# Altium schematic symbol library Schlib1.SchLib: 25 symbols
Pins are listed as number, name and electrical type; pins without a type are passive.

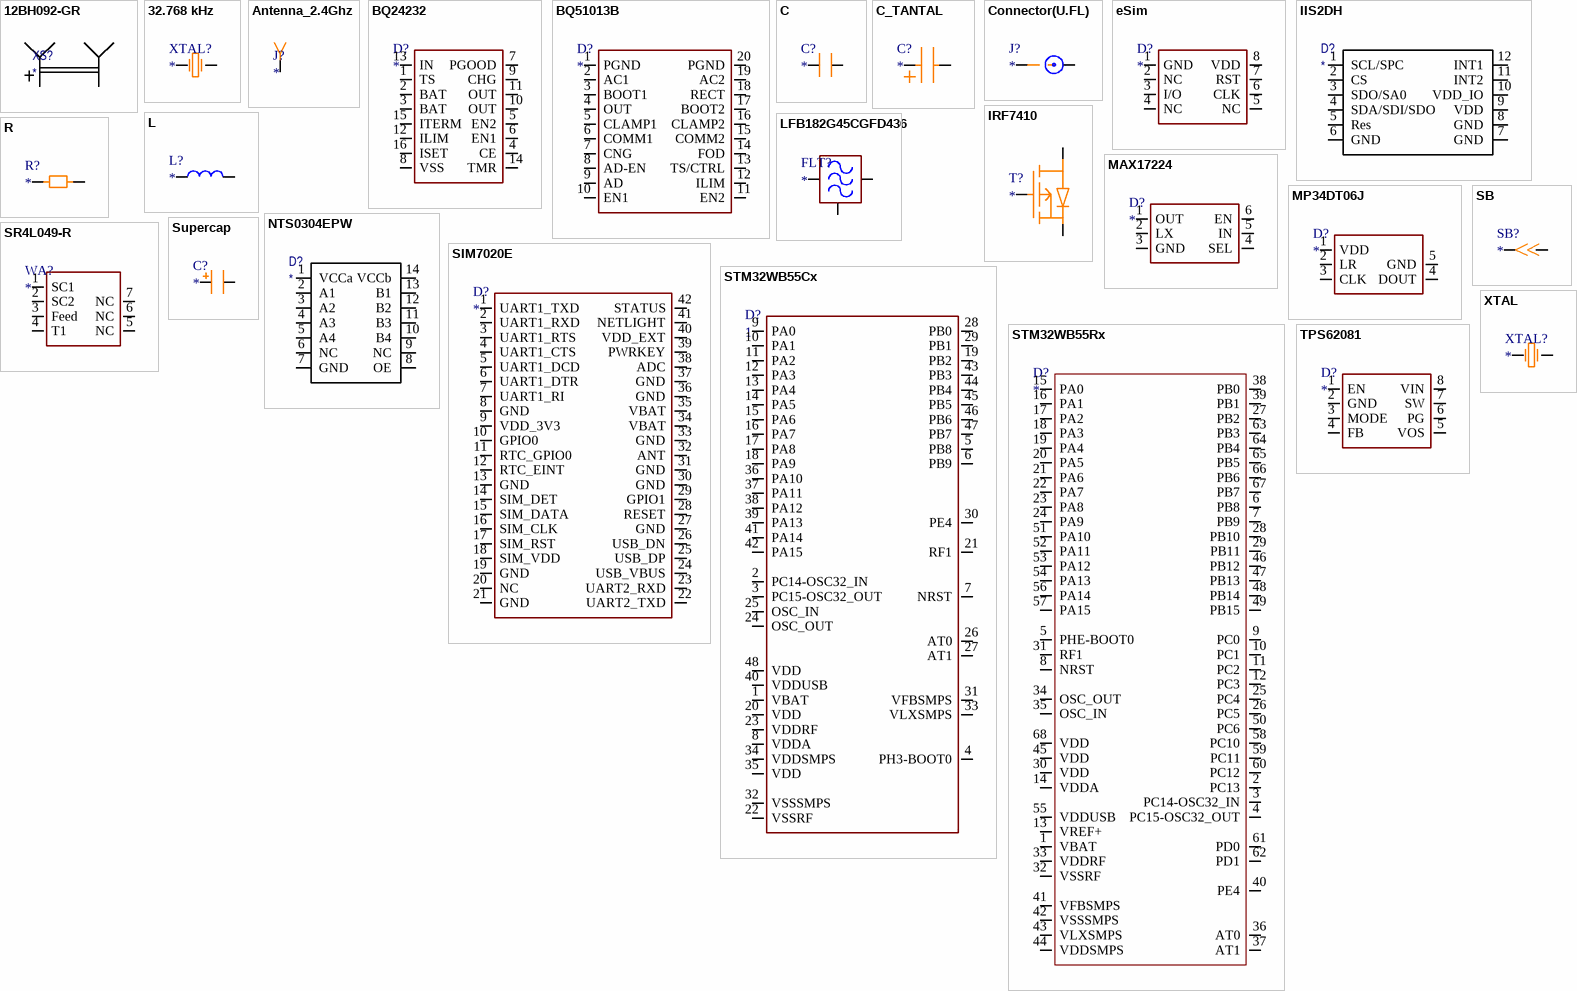
[diagram p0: symbols 12BH092-GR to XTAL]

## 12BH092-GR
designator XS?
footprint 12BH092-GR
pins: 1, 2

## 32.768 kHz
designator XTAL?
footprint NX2012SA
pins: 1, 2

## Antenna_2.4Ghz
designator J?
footprint Antenna_2.4Ghz
pins: 1

## BQ24232
designator D?
footprint VQFN-16
pins: 1 TS, 2 BAT, 3 BAT, 4 CE, 5 EN2, 6 EN1, 7 PGOOD, 8 VSS, 9 CHG, 10 OUT, 11 OUT, 12 ILIM, 13 IN, 14 TMR, 15 ITERM, 16 ISET

## BQ51013B
designator D?
footprint VQFN20
pins: 1 PGND, 2 AC1, 3 BOOT1, 4 OUT, 5 CLAMP1, 6 COMM1, 7 CNG, 8 AD-EN, 9 AD, 10 EN1, 11 EN2, 12 ILIM, 13 TS/CTRL, 14 FOD, 15 COMM2, 16 CLAMP2, 17 BOOT2, 18 RECT, 19 AC2, 20 PGND

## C
designator C?
footprint C0402
footprint C0805
footprint C0603
pins: 1, 2

## C_TANTAL
designator C?
footprint C_TYPE_D
pins: 1, 2

## Connector(U.FL)
designator J?
footprint U.FL
pins: 1, 2

## eSim
designator D?
footprint VQFN8
pins: 1 GND, 2 NC, 3 I/O, 4 NC, 5 NC, 6 CLK, 7 RST, 8 VDD

## IIS2DH
designator D?
footprint LGA12
pins: 1 SCL/SPC, 2 CS, 3 SDO/SA0, 4 SDA/SDI/SDO, 5 Res, 6 GND, 7 GND, 8 GND, 9 VDD, 10 VDD_IO, 11 INT2, 12 INT1

## IRF7410
designator T?
footprint SO8
pins: 1, 4, 5

## L
designator L?
footprint L0402
footprint L0805
footprint L1608
footprint L2016
pins: 1, 2

## LFB182G45CGFD436
designator FLT?
footprint LFB182G45CGFD436
pins: 1, 2, 3

## MAX17224
designator D?
pins: 1 OUT, 2 LX, 3 GND, 4 SEL, 5 IN, 6 EN

## MP34DT06J
designator D?
footprint MP34DT06J
pins: 1 VDD, 2 LR, 3 CLK, 4 DOUT, 5 GND

## NTS0304EPW
designator D?
footprint TSSOP14
pins: 1 VCCa, 2 A1, 3 A2, 4 A3, 5 A4, 6 NC, 7 GND, 8 OE, 9 NC, 10 B4, 11 B3, 12 B2, 13 B1, 14 VCCb

## R
designator R?
footprint R0402
pins: 1, 2

## SB
designator SB?
footprint SB
pins: 1, 2

## SIM7020E
designator D?
footprint SIM7020E
pins: 1 UART1_TXD, 2 UART1_RXD, 3 UART1_RTS, 4 UART1_CTS, 5 UART1_DCD, 6 UART1_DTR, 7 UART1_RI, 8 GND, 9 VDD_3V3, 10 GPIO0, 11 RTC_GPIO0, 12 RTC_EINT, 13 GND, 14 SIM_DET, 15 SIM_DATA, 16 SIM_CLK, 17 SIM_RST, 18 SIM_VDD, 19 GND, 20 NC, 21 GND, 22 UART2_TXD, 23 UART2_RXD, 24 USB_VBUS, 25 USB_DP, 26 USB_DN, 27 GND, 28 RESET, 29 GPIO1, 30 GND, 31 GND, 32 ANT, 33 GND, 34 VBAT, 35 VBAT, 36 GND, 37 GND, 38 ADC, 39 PWRKEY, 40 VDD_EXT, 41 NETLIGHT, 42 STATUS

## SR4L049-R
designator WA?
footprint SR4L049-R
pins: 1 SC1, 2 SC2, 3 Feed, 4 T1, 5 NC, 6 NC, 7 NC

## STM32WB55Cx
designator D?, comment 1
footprint UFQFPN48
pins: 1 VBAT, 2 PC14-OSC32_IN, 3 PC15-OSC32_OUT, 4 PH3-BOOT0, 5 PB8, 6 PB9, 7 NRST, 8 VDDA, 9 PA0, 10 PA1, 11 PA2, 12 PA3, 13 PA4, 14 PA5, 15 PA6, 16 PA7, 17 PA8, 18 PA9, 19 PB2, 20 VDD, 21 RF1, 22 VSSRF, 23 VDDRF, 24 OSC_OUT, 25 OSC_IN, 26 AT0, 27 AT1, 28 PB0, 29 PB1, 30 PE4, 31 VFBSMPS, 32 VSSSMPS, 33 VLXSMPS, 34 VDDSMPS, 35 VDD, 36 PA10, 37 PA11, 38 PA12, 39 PA13, 40 VDDUSB, 41 PA14, 42 PA15, 43 PB3, 44 PB4, 45 PB5, 46 PB6, 47 PB7, 48 VDD

## STM32WB55Rx
designator D?
footprint VFQFPN68
pins: 1 VBAT, 2 PC13, 3 PC14-OSC32_IN, 4 PC15-OSC32_OUT, 5 PHE-BOOT0, 6 PB8, 7 PB9, 8 NRST, 9 PC0, 10 PC1, 11 PC2, 12 PC3, 13 VREF+, 14 VDDA, 15 PA0, 16 PA1, 17 PA2, 18 PA3, 19 PA4, 20 PA5, 21 PA6, 22 PA7, 23 PA8, 24 PA9, 25 PC4, 26 PC5, 27 PB2, 28 PB10, 29 PB11, 30 VDD, 31 RF1, 32 VSSRF, 33 VDDRF, 34 OSC_OUT, 35 OSC_IN, 36 AT0, 37 AT1, 38 PB0, 39 PB1, 40 PE4, 41 VFBSMPS, 42 VSSSMPS, 43 VLXSMPS, 44 VDDSMPS, 45 VDD, 46 PB12, 47 PB13, 48 PB14, 49 PB15, 50 PC6, 51 PA10, 52 PA11, 53 PA12, 54 PA13, 55 VDDUSB, 56 PA14, 57 PA15, 58 PC10, 59 PC11, 60 PC12, 61 PD0, 62 PD1, 63 PB3, 64 PB4, 65 PB5, 66 PB6, 67 PB7, 68 VDD

## Supercap
designator C?
footprint Supercap_5mm
pins: 1, 2

## TPS62081
designator D?
footprint WSON8
pins: 1 EN, 2 GND, 3 MODE, 4 FB, 5 VOS, 6 PG, 7 SW, 8 VIN

## XTAL
designator XTAL?
footprint NX2012SA
footprint NX2016SA
pins: 1, 2